# Altium footprint library packages.PcbLib: 34 footprints (part 2 of 3)
Each footprint in its own frame and in the unit in brackets; x right, y up, seen from the top. Pads: shape width x height; smd on the part's side, far side on the other; paste and mask are expansions set on the pad; w line width, h text height; cw(c..) or ccw(c..) is an arc to the next point about the centre after c.
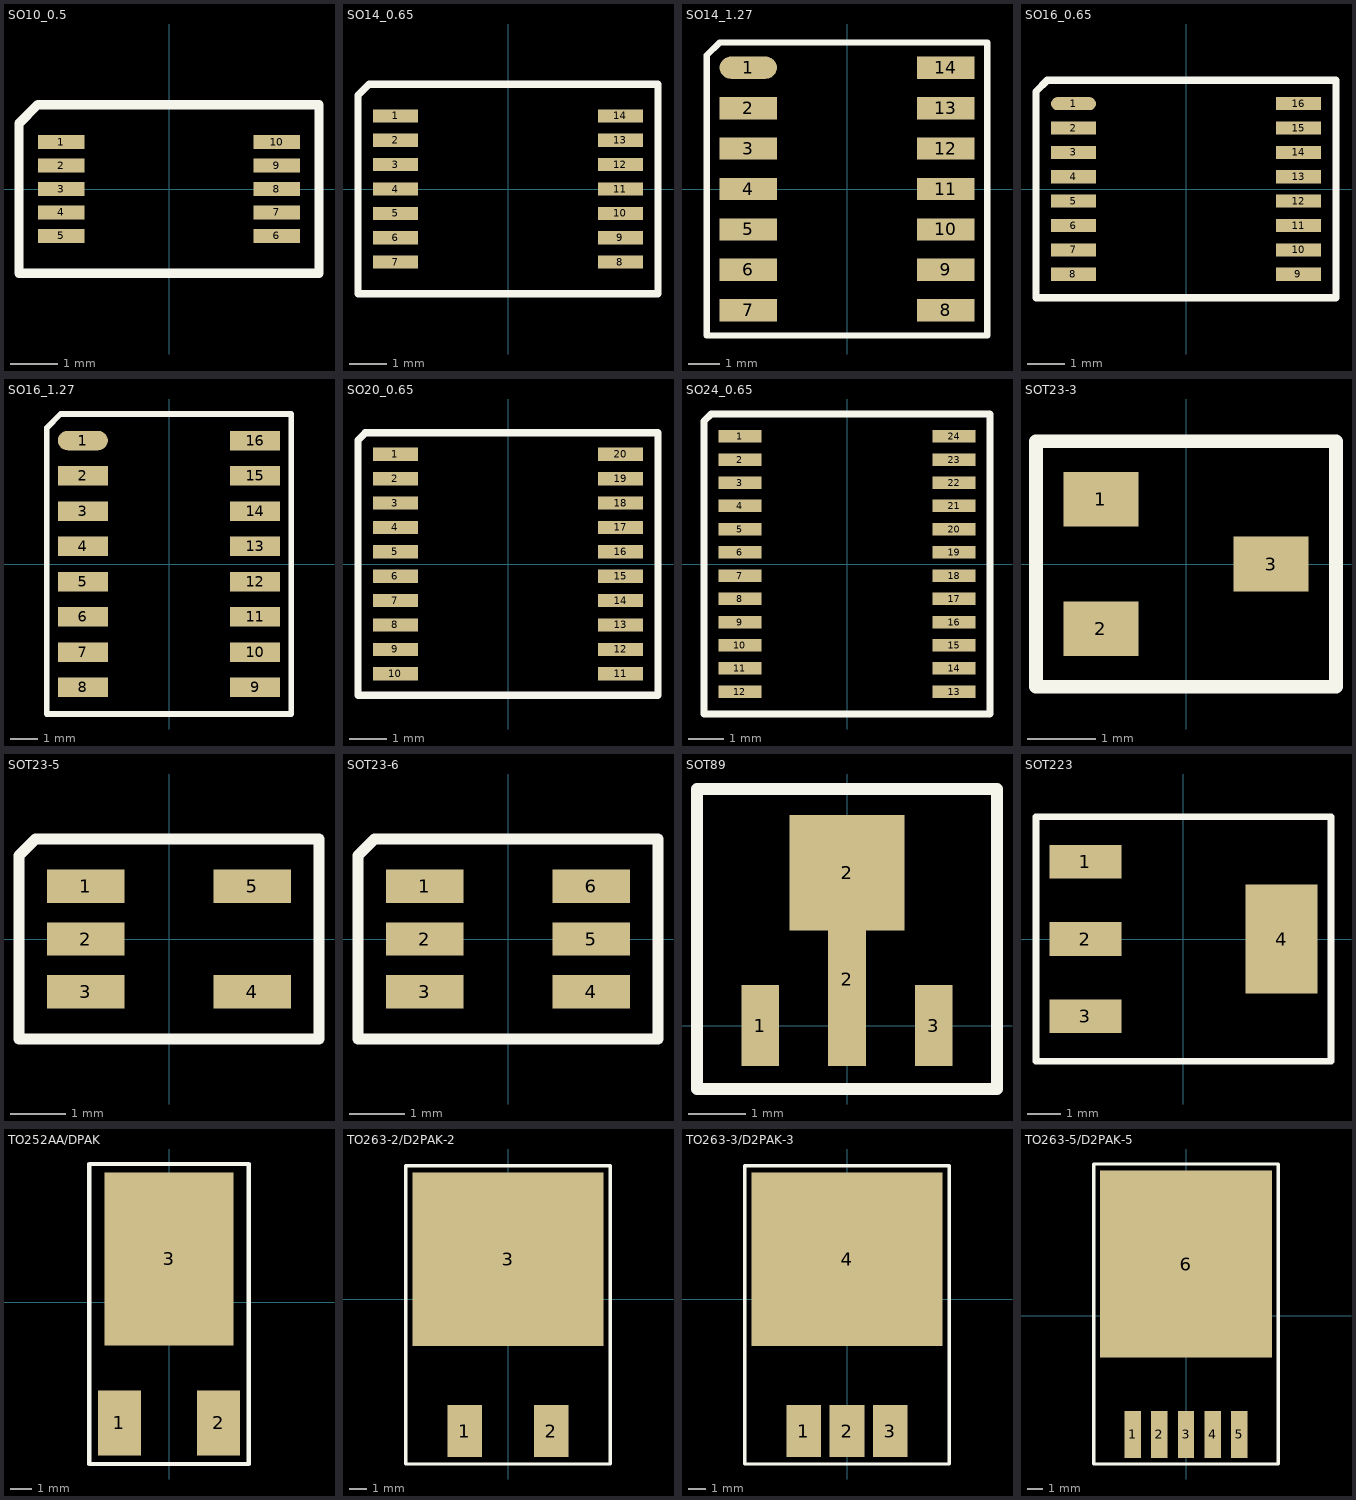
[diagram p1: the footprints below, top view; thin cyan lines are the x and y axes]

## SO10_0.5 [mm]
height 1.1
pads (10):
  rect 1x0.3 smd mask+0.11: 1(-2.3,1) 2(-2.3,0.5) 3(-2.3,0) 4(-2.3,-0.5) 5(-2.3,-1) 6(2.3,-1) 7(2.3,-0.5) 8(2.3,0) 9(2.3,0.5) 10(2.3,1)
Top Overlay:
  lines w0.2: -3.2,-1.8 -3.2,1.4 -2.8,1.8 3.2,1.8 3.2,-1.8 -3.2,-1.8
3D body "MSOP-10 0.50p 3mm.step": height 1, standoff 0, extent -2.45,-1.5 2.45,1.5

## SO14_0.65 [mm]
height 1.2
pads (14):
  rect 1.2x0.35 smd: 1(-3,1.95) 2(-3,1.3) 3(-3,0.65) 4(-3,0) 5(-3,-0.65) 6(-3,-1.3) 7(-3,-1.95) 8(3,-1.95) 9(3,-1.3) 10(3,-0.65) 11(3,0) 12(3,0.65) 13(3,1.3) 14(3,1.95)
Top Overlay:
  lines w0.2: -4,-2.8 4,-2.8 4,2.8 -3.7,2.8 -4,2.5 -4,-2.8
3D body "TSSOP-14 0.65p 4.4mm.step": height 1, standoff 0, extent -3.15,-2.5 3.15,2.5

## SO14_1.27 [mm]
height 2.2
pads (14):
  oval 1.8x0.7 smd mask+0.1: 1(-3.1,3.81)
  rect 1.8x0.7 smd mask+0.1: 2(-3.1,2.54) 3(-3.1,1.27) 4(-3.1,0) 5(-3.1,-1.27) 6(-3.1,-2.54) 7(-3.1,-3.81) 8(3.1,-3.81) 9(3.1,-2.54) 10(3.1,-1.27) 11(3.1,0) 12(3.1,1.27) 13(3.1,2.54) 14(3.1,3.81)
Top Overlay:
  lines w0.2: -4.4,-4.6 -4.4,4.2 -4,4.6 4.4,4.6 4.4,-4.6 -4.4,-4.6
3D body "SO14.STP": height 1.65, standoff 0, extent -3.01,-4.325 3.011,4.325

## SO16_0.65 [mm]
height 1.2
pads (16):
  oval 1.2x0.35 smd: 1(-3,2.275)
  rect 1.2x0.35 smd: 2(-3,1.625) 3(-3,0.975) 4(-3,0.325) 5(-3,-0.325) 6(-3,-0.975) 7(-3,-1.625) 8(-3,-2.275) 9(3,-2.275) 10(3,-1.625) 11(3,-0.975) 12(3,-0.325) 13(3,0.325) 14(3,0.975) 15(3,1.625) 16(3,2.275)
Top Overlay:
  lines w0.2: -4,-2.9 -4,2.6 -3.7,2.9 4,2.9 4,-2.9 -4,-2.9
3D body "TSSOP-16 0.65p 4.4mm.step": height 1, standoff 0, extent -3.15,-2.5 3.15,2.5

## SO16_1.27 [mm]
height 2.2
pads (16):
  oval 1.8x0.7 smd: 1(-3.1,4.445)
  rect 1.8x0.7 smd: 2(-3.1,3.175) 3(-3.1,1.905) 4(-3.1,0.635) 5(-3.1,-0.635) 6(-3.1,-1.905) 7(-3.1,-3.175) 8(-3.1,-4.445) 9(3.1,-4.445) 10(3.1,-3.175) 11(3.1,-1.905) 12(3.1,-0.635) 13(3.1,0.635) 14(3.1,1.905) 15(3.1,3.175) 16(3.1,4.445)
Top Overlay:
  lines w0.2: -4.4,-5.4 4.4,-5.4 4.4,5.4 -3.9,5.4 -4.4,4.9 -4.4,-5.4
3D body "SOIC16 narrow.stp": height 2, standoff 0, extent -3.082,-5.04 3.081,5.04

## SO20_0.65 [mm]
height 1.1
pads (20):
  rect 1.2x0.35 smd mask+0.1: 1(-3,2.925) 2(-3,2.275) 3(-3,1.625) 4(-3,0.975) 5(-3,0.325) 6(-3,-0.325) 7(-3,-0.975) 8(-3,-1.625) 9(-3,-2.275) 10(-3,-2.925) 11(3,-2.925) 12(3,-2.275) 13(3,-1.625) 14(3,-0.975) 15(3,-0.325) 16(3,0.325) 17(3,0.975) 18(3,1.625) 19(3,2.275) 20(3,2.925)
Top Overlay:
  lines w0.2: -4,-3.5 -4,3.3 -3.8,3.5 4,3.5 4,-3.5 -4,-3.5
Top Solder:
  rectangle: -3.7,-3.2 -2.3,3.2
  rectangle: 2.3,-3.2 3.7,3.2
3D body "TSSOP-20 0.65p 4.4mm.step": height 1, standoff 0, extent -3.15,-3.2 3.15,3.2

## SO24_0.65 [mm]
height 1.2
pads (24):
  rect 1.2x0.35 smd mask+0.1: 1(-3,3.575) 2(-3,2.925) 3(-3,2.275) 4(-3,1.625) 5(-3,0.975) 6(-3,0.325) 7(-3,-0.325) 8(-3,-0.975) 9(-3,-1.625) 10(-3,-2.275) 11(-3,-2.925) 12(-3,-3.575) 13(3,-3.575) 14(3,-2.925) 15(3,-2.275) 16(3,-1.625) 17(3,-0.975) 18(3,-0.325) 19(3,0.325) 20(3,0.975) 21(3,1.625) 22(3,2.275) 23(3,2.925) 24(3,3.575)
Top Overlay:
  lines w0.2: -4,-4.2 -4,4 -3.8,4.2 4,4.2 4,-4.2 -4,-4.2
Top Solder:
  rectangle: -3.7,-3.85 -2.3,3.85
  rectangle: 2.3,-3.85 3.7,3.85
3D body "TSSOP-24 0.65p 4.4mm.step": height 1, standoff 0, extent -3.15,-3.9 3.15,3.9

## SOT23-3 [mm] "SOT23, 3 pins"
height 1.2
pads (3):
  rect 1.1x0.8 smd mask+0.1: 1(-1.25,0.95) 2(-1.25,-0.95) 3(1.25,0)
Top Overlay:
  lines w0.2: -2.2,-1.8 -2.2,1.8 2.2,1.8 2.2,-1.8 -2.2,-1.8
3D body "SOT23-3.STEP": height 1.22, standoff 0, extent -1.126,-1.5 1.126,1.5

## SOT23-5 [mm]
height 1.45
pads (5):
  rect 1.4x0.6 smd mask+0.1: 1(-1.5,0.95) 2(-1.5,0) 3(-1.5,-0.95) 4(1.5,-0.95) 5(1.5,0.95)
Top Overlay:
  lines w0.2: -2.7,-1.8 -2.7,1.5 -2.4,1.8 2.7,1.8 2.7,-1.8 -2.7,-1.8
Top Solder:
  rectangle: -2.3,-1.2 -0.7,1.3
3D body "MO-178AA.stp": height 1.45, standoff 0, extent -1.5,-1.525 1.5,1.525

## SOT23-6 [mm]
height 1.45
pads (6):
  rect 1.4x0.6 smd mask+0.1: 1(-1.5,0.95) 2(-1.5,0) 3(-1.5,-0.95) 4(1.5,-0.95) 5(1.5,0) 6(1.5,0.95)
Top Overlay:
  lines w0.2: -2.7,-1.8 2.7,-1.8 2.7,1.8 -2.4,1.8 -2.7,1.5 -2.7,-1.8
Top Solder:
  rectangle: -2.3,-1.3 -0.7,1.3
  region: 2.3,1.3 0.7,1.3 0.7,-1.3 2.3,-1.3
3D body "SOT23-6.stp": height 1.12, standoff 0, extent -1.422,-1.461 1.422,1.46

## SOT89 [mm] "SOT89"
height 1.2
pads (4):
  rect 0.65x1.4 smd mask+0.1: 1(-1.5,0) 3(1.5,0)
  rect 0.65x3 smd mask+0.1: 2(0,0.8)
  rect 2x2 smd mask+0.1: 2(0,2.65)
Top Overlay:
  lines w0.2: -2.6,-1.1 2.6,-1.1 2.6,4.1 -2.6,4.1 -2.6,-1.1
3D body "sot89-3_p1-5_l4-5_w2-5.stp": height 1.5, standoff -0.01, extent -2.25,-0.55 2.25,3.55

## SOT223 [mm] "SOT223, 4-Leads, Body 6.50x7.00mm (avg), Pitch 2.30mm, IPC Medium Density"
height 1.8
pads (4):
  rect 2.15x1 smd mask+0.1: 1(-2.925,2.3) 2(-2.925,0) 3(-2.925,-2.3)
  rect 2.15x3.25 smd mask+0.1: 4(2.925,0)
Top Overlay:
  lines w0.2: -4.4,-3.65 -4.4,3.65 4.4,3.65 4.4,-3.65 -4.4,-3.65
3D body: height 1.8, standoff 0.02, extent -1.85,-3.35 1.85,3.35

## TO252AA/DPAK [mm] "TO252AA/DPAK package"
height 2.4
pads (3):
  rect 2x3 smd mask+0.1: 1(-2.3,-5.6) 2(2.3,-5.6)
  rect 6x8 smd mask+0.1: 3(0,2)
Top Overlay:
  lines w0.2: -3.7,-7.5 3.7,-7.5 3.7,6.4 -3.7,6.4 -3.7,-7.5
3D body "TO252_DPAK.stp": height 2.39, standoff 0, extent -3.37,-6.01 3.37,4.38

## TO263-2/D2PAK-2 [mm] "TO263/D2PAK package"
height 4.6
pads (3):
  rect 2x3 smd mask+0.1: 1(-2.5,-7.6) 2(2.5,-7.6)
  rect 11x10 smd mask+0.1: 3(0,2.3)
Top Overlay:
  lines w0.2: -5.9,-9.5 -5.9,7.7 5.9,7.7 5.9,-9.5 -5.9,-9.5
3D body "TO263-3-2.stp": height 4.22, standoff 0, extent -4.911,-8.361 4.911,6.241

## TO263-3/D2PAK-3 [mm] "TO263/D2PAK package"
height 4.6
pads (4):
  rect 2x3 smd mask+0.1: 1(-2.5,-7.6) 2(0,-7.6) 3(2.5,-7.6)
  rect 11x10 smd mask+0.1: 4(0,2.3)
Top Overlay:
  lines w0.2: -5.9,-9.5 -5.9,7.7 5.9,7.7 5.9,-9.5 -5.9,-9.5
3D body "TO263-3-1.stp": height 4.22, standoff 0, extent -4.911,-8.56 4.911,6.041

## TO263-5/D2PAK-5 [mm] "TO263/D2PAK package, 5 pins version"
height 4.6
pads (6):
  rect 1.05x3 smd mask+0.1: 1(-3.4,-7.6) 2(-1.7,-7.6) 3(0,-7.6) 4(1.7,-7.6) 5(3.4,-7.6)
  rect 11x12 smd mask+0.1: 6(0,3.3)
Top Overlay:
  lines w0.2: -5.9,-9.5 -5.9,9.7 5.9,9.7 5.9,-9.5 -5.9,-9.5
3D body "TO-263-5_TabPin6.step": height 4.42, standoff 0, extent -5,-8 5,7